# Altium footprint library кварцы и генераторы.PcbLib: 13 footprints
Each footprint in its own frame and in the unit in brackets; x right, y up, seen from the top. Pads: shape width x height; smd on the part's side, far side on the other; paste and mask are expansions set on the pad; w line width, h text height; cw(c..) or ccw(c..) is an arc to the next point about the centre after c.
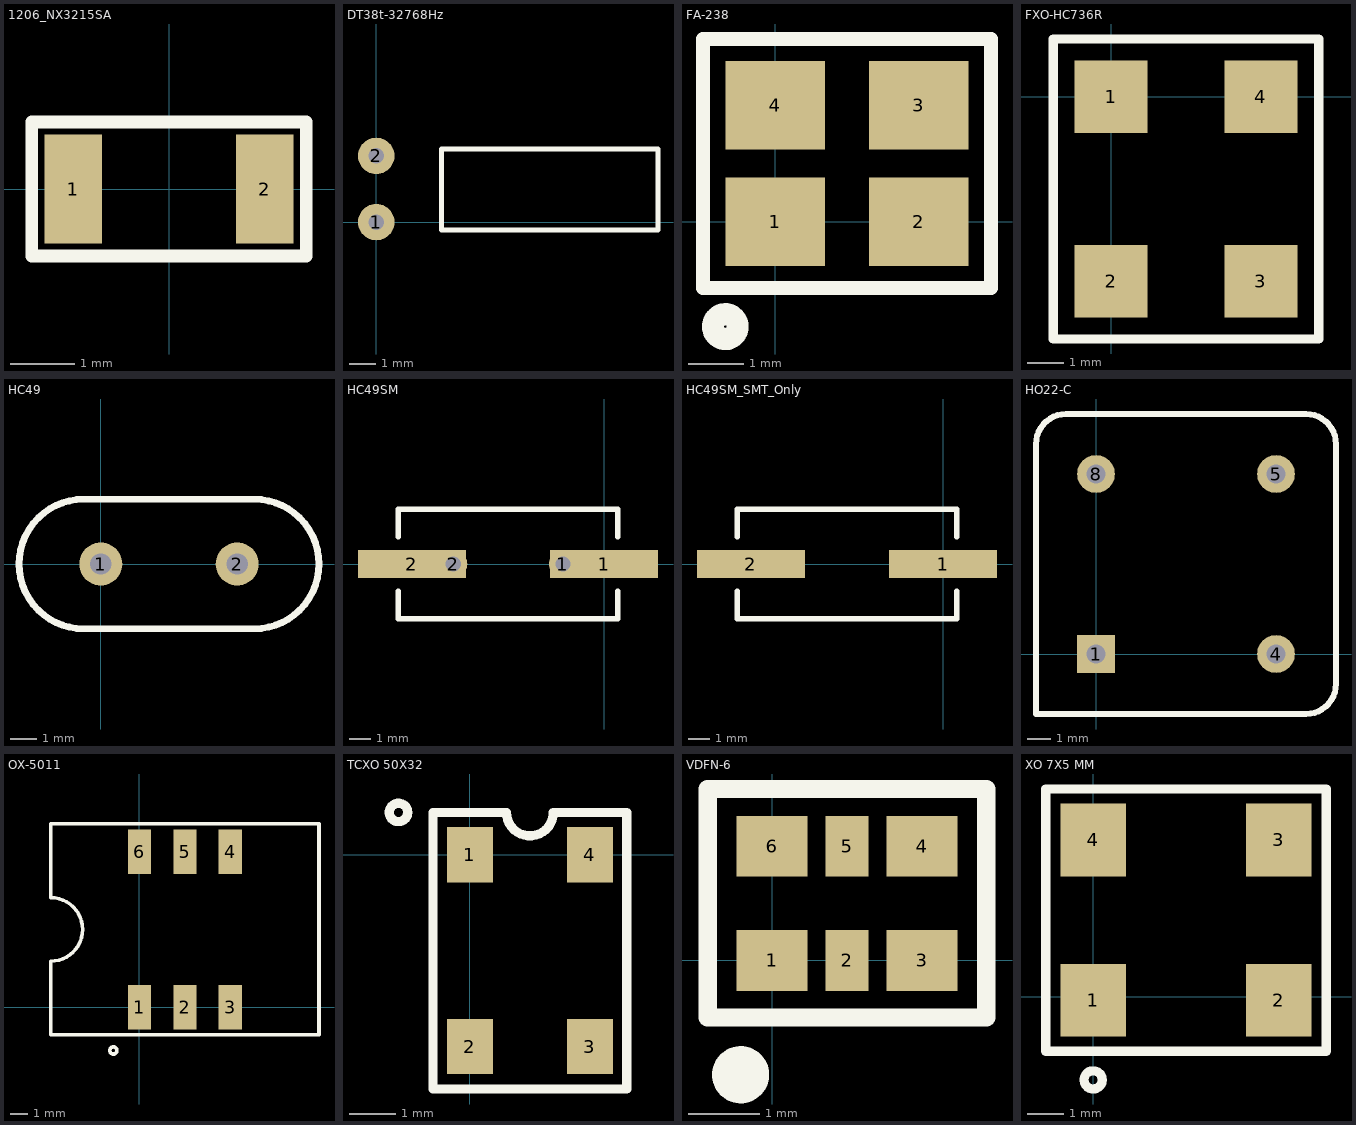
[diagram p0: the footprints below, top view; thin cyan lines are the x and y axes]

## 1206_NX3215SA [mm] "Кварц. резонатор 1206(3216)"
height 0.8
pads (2):
  rect 0.9x1.7 smd mask+0.025: 1(-1.5,0) 2(1.5,0)
Top Overlay:
  lines w0.2: -2.15,-1.05 -2.15,1.05 2.15,1.05 2.15,-1.05 -2.15,-1.05
3D body "User Library-NDK_NX3215SA.SLDPRT": height 0.8, standoff 0, extent -1.6,-0.75 1.6,0.75

## DT38t-32768Hz [mm] "Часовой кварцевый резонатор, корпус 8х3 мм"
pads (2):
  round 1.4 hole 0.6: 1(0,0) 2(0,2.54)
Top Overlay:
  lines w0.2: 2.5,-0.3 2.5,2.8 10.8,2.8 10.8,-0.3 2.5,-0.3
3D body "User Library-DT-38.STEP": height 3, standoff -0.45, extent -0.208,-0.225 10.808,2.775

## FA-238 [mm]
pads (4):
  rect 1.8x1.6 smd: 1(0,0) 2(2.6,0) 3(2.6,2.1) 4(0,2.1)
Top Overlay:
  circle w0.4: c-0.9,-1.9 r0.224
  lines w0.254: -1.3,-1.2 -1.3,3.3 3.9,3.3 3.9,-1.2 -1.3,-1.2

## FXO-HC736R [mm]
pads (4):
  rect 2x2 smd: 1(0,0) 2(0,-5.08) 3(4.127,-5.08) 4(4.127,0)
Top Overlay:
  lines w0.254: -1.587,-6.667 -1.587,1.587 5.715,1.587 5.715,-6.667 -1.587,-6.667

## HC49 [mm]
pads (2):
  round 1.6 hole 0.8: 1(0,0) 2(5.08,0)
Top Overlay:
  lines w0.254: -0.635,-2.413 cw(c-0.635,0) -0.635,2.413 5.715,2.413 cw(c5.715,0) 5.715,-2.413 -0.635,-2.413

## HC49SM [mm]
pads (4):
  round 1.3 hole 0.7: 1(-1.9,0) 2(-6.98,0)
  rect 5x1.3 smd: 1(0,0) 2(-8.89,0)
Top Overlay:
  lines w0.254: -9.525,-1.27 -9.525,-2.54 0.635,-2.54 0.635,-1.27 ; -9.525,1.27 -9.525,2.54 0.635,2.54 0.635,1.27
3D body "User Library-Crystal HC49_US-SM.SLDPRT": height 4.3, standoff 0, extent -10.9,-2.415 1.9,2.415

## HC49SM_SMT_Only [mm]
pads (2):
  rect 5x1.3 smd: 1(0,0) 2(-8.89,0)
Top Overlay:
  lines w0.254: -9.525,-1.27 -9.525,-2.54 0.635,-2.54 0.635,-1.27 ; -9.525,1.27 -9.525,2.54 0.635,2.54 0.635,1.27
3D body "User Library-Crystal HC49_US-SM.SLDPRT": height 4.3, standoff 0, extent -10.9,-2.415 1.9,2.415

## HO22-C [mm]
pads (4):
  rect 1.6x1.6 hole 0.8: 1(0,0)
  round 1.6 hole 0.8: 4(7.62,0) 5(7.62,7.62) 8(0,7.62)
Top Overlay:
  lines w0.254: -2.54,-2.54 -2.54,8.89 cw(c-1.27,8.89) -1.27,10.16 8.89,10.16 cw(c8.89,8.89) 10.16,8.89 10.16,-1.27 cw(c8.89,-1.27) 8.89,-2.54 -2.54,-2.54

## OX-5011 [mm]
pads (6):
  rect 1.3x2.5 smd: 1(0,0) 2(2.54,0) 3(5.08,0) 4(5.08,8.7) 5(2.54,8.7) 6(0,8.7)
Top Overlay:
  circle w0.2: c-1.46,-2.42 r0.2
  lines w0.2: -4.96,-1.55 -4.96,2.572 ccw(c-4.96,4.35) -4.96,6.128 -4.96,10.25 10.04,10.25 10.04,-1.55 -4.96,-1.55

## PCBComponent_1 [mm]

## TCXO 50X32 [mm]
pads (4):
  rect 1x1.2 smd: 1(0,0) 2(0,-4.16) 3(2.6,-4.16) 4(2.6,0)
Top Overlay:
  circle w0.2: c-1.55,0.92 r0.2
  lines w0.2: -0.8,-5.08 -0.8,0.92 0.792,0.92 ccw(c1.3,0.92) 1.808,0.92 3.4,0.92 3.4,-5.08 -0.8,-5.08

## VDFN-6 [mm]
pads (6):
  rect 1x0.85 smd: 1(0,0) 3(2.1,0) 4(2.1,1.6) 6(0,1.6)
  rect 0.6x0.85 smd: 2(1.05,0) 5(1.05,1.6)
Top Overlay:
  circle w0.4: c-0.44,-1.6 r0.2
  lines w0.254: -0.9,-0.8 -0.9,2.4 3,2.4 3,-0.8 -0.9,-0.8

## XO 7X5 MM [mm]
pads (4):
  rect 1.8x2 smd: 1(0,-0.1) 2(5.1,-0.1) 3(5.1,4.3) 4(0,4.3)
Top Overlay:
  circle w0.25: c0,-2.29 r0.25
  lines w0.254: -1.3,-1.5 -1.3,5.7 6.4,5.7 6.4,-1.5 -1.3,-1.5